# EAGLE library part SN7438_SN7438DR (library MeRCIS Lab Parts)
7438 device Quadruple 2-input NAND gates
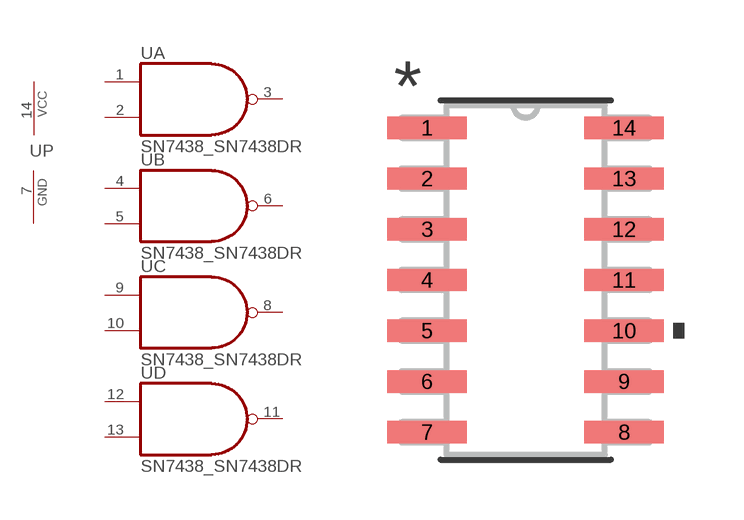
[diagram p12: symbol with the pads of SN7438_D14; footprint SN7438_D14]

Designator prefix -; gates A=SN7438_7439 B=SN7438_7439 C=SN7438_7439 D=SN7438_7439 P=SN7438_PWRN:2

## SN7438_SN7438DR  [SN7438_D14]
1  A:I0  in
2  A:I1  in
3  A:O  oc
4  B:I0  in
5  B:I1  in
6  B:O  oc
7  P:GND  pwr
8  C:O  oc
9  C:I0  in
10  C:I1  in
11  D:O  oc
12  D:I0  in
13  D:I1  in
14  P:VCC  pwr

## Footprint SN7438_D14 (pad centres in mm)
smd 1.981 x 0.559: 1 -2.464,3.81; 2 -2.464,2.54; 3 -2.464,1.27; 4 -2.464,0; 5 -2.464,-1.27; 6 -2.464,-2.54; 7 -2.464,-3.81; 8 2.464,-3.81; 9 2.464,-2.54; 10 2.464,-1.27; 11 2.464,0; 12 2.464,1.27; 13 2.464,2.54; 14 2.464,3.81